# Altium schematic symbol library sch-libs.SCHLIB: 30 symbols
Pins are listed as number, name and electrical type; pins without a type are passive.

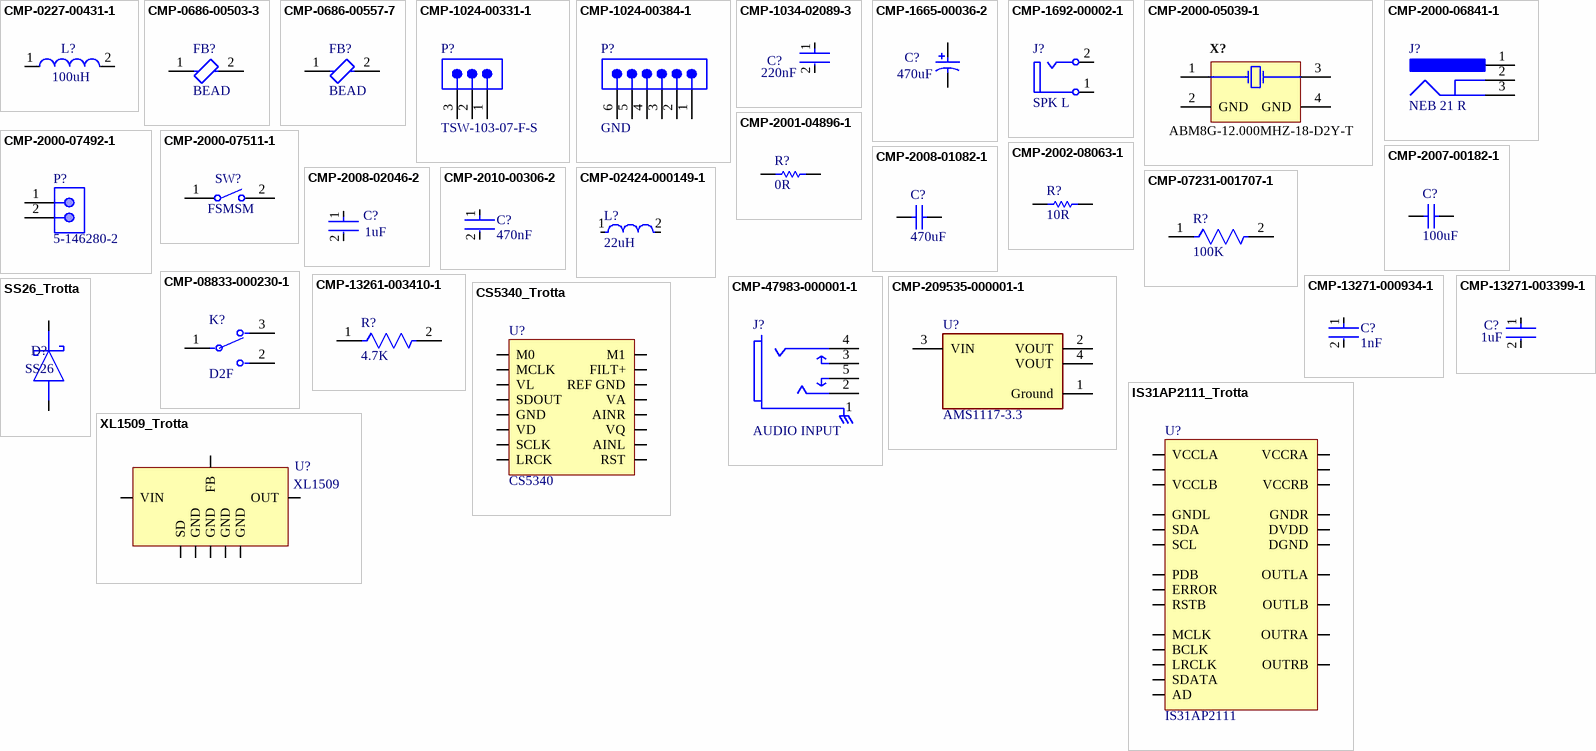
[diagram p0: symbols CMP-0227-00431-1 to XL1509_Trotta]

## CMP-0227-00431-1
designator L?, comment 100uH
SMD Power Inductor WE-PD2, L = 100 µH; Manufacturer: Wurth Electronics; Manufacturer Part Number: 74477520; Inductance: 100 ÂµH; PackageVersion: 2004; ComponentLink1Description: Manufacturer Link; PackageDescription: SMD Inductor, 2-Leads, Body 7.8 x 7.0 mm; ComponentLink2URL: http://www.we-online.de/katalog/media/pdf/74477520.pdf; ComponentLink2Description: Datasheet; DatasheetVersion: ver 1, Oct-2004; PackageReference: WE-PD2-L; ComponentLink1URL: http://www.we-online.com
footprint WE-PD2-L (SMD Inductor, 2-Leads, Body 7.8x7.0x5.5 mm)
pins: 1, 2

## CMP-0686-00503-3
designator FB?, comment BEAD
Chip Ferrite Bead, 0603, 75Ω @ 100MHz, 0.3Ω, 25%, 600mA; Manufacturer: Murata; Manufacturer Part Number: BLM18BB750SN1D; Resistance: 350mR; Max DC Current: 500mA; Shielding: Unshielded; Number of Lines: 1; Impedance: 75R; Conductor Material: Copper; Material: Steel; DC Resistance (DCR): 300mR; Temperature Coefficient: 10ppm/°C; Max Current Rating: 500mA; Case/Package: 0603; Case Code (Imperial): 0603; DC Current: 500mA; Test Frequency: 100MHz; Military Standard: Not; Series: BLM18B; Min Operating Temperature: -55°C; Number of Pins: 2; Termination: SMD/SMT; Length: 1.6mm; Packaging: Tape and Reel; Max Operating Temperature: 125°C; Package Quantity: 1; REACH SVHC: No SVHC; Height: 0.8mm; Radiation Hardening: No; Depth: 0.8mm; Tolerance: 25%; Current Rating: 500mA; Width: 0.8mm; Core Material: Ferrite; RoHS Compliant: Yes; DC Resistance-Max: 300mR; Lead Free: Lead Free; Case Code (Metric): 1608; Number of Circuits: 1
footprint FP-BLM18-0_15-t0_8-IPC_B
footprint FP-BLM18-0_15-t0_8-IPC_A
footprint FP-BLM18-0_15-t0_8-MFG
footprint FP-BLM18-0_15-t0_8-IPC_C
pins: 1, 2

## CMP-0686-00557-7
designator FB?, comment BEAD
Chip Ferrite Bead, 0603, 120Ω @ 100MHz, 0.05Ω, 25%, 2A; Manufacturer: Murata; Manufacturer Part Number: BLM18PG121SN1D; Impedance: 120R; Number of Circuits: 1; Shielding: Unshielded; Material: Steel; DC Resistance (DCR): 50mR; Case Code (Imperial): 0603; RoHS Compliant: Yes; Number of Pins: 2; Min Operating Temperature: -55°C; Case Code (Metric): 1608; Frequency: 100MHz; Length: 1.6mm; Test Frequency: 100MHz; Max Operating Temperature: 125°C; Packaging: Tape and Reel; Max Current Rating: 2A; Termination: SMD/SMT; Lead Free: Lead Free; Max DC Current: 2A; Case/Package: 0603; Height: 0.8mm; Current Rating: 2A; Radiation Hardening: No; Core Material: Ferrite; DC Current: 2A; REACH SVHC: No SVHC; Package Quantity: 1; Depth: 0.8mm; Number of Lines: 1; Tolerance: 25%; Width: 0.8mm
footprint FP-BLM18-0_15-t0_8-IPC_A
footprint FP-BLM18-0_15-t0_8-IPC_C
footprint FP-BLM18-0_15-t0_8-IPC_B
footprint FP-BLM18-0_15-t0_8-MFG
pins: 1, 2

## CMP-1024-00331-1
designator P?, comment TSW-103-07-F-S
0.025" SQ Post Header, Through-hole, Vertical, -55 to 125 degC, 2.54 mm Pitch, 3-Pin, Male, RoHS; Manufacturer: Samtec; Pitch: 2.54 mm; DatasheetVersion: F-214; ComponentLink1Description: Manufacturer URL; ComponentLink3URL: http://www.samtec.com/documents/webfiles/cpdf/TSW-XXX-XX-XXX-X-XX-XXX-MKT.pdf; Mounting Technology: Through-hole; PackageDescription: .025[0.64] SQ. Post Terminal Strip Assembly; Temperature Range: -55 to 125 degC; ComponentLink3Description: Package Specification; Orientation: Vertical; PartNumber: TSW-103-07-F-S; RoHS: True; PackageVersion: DM, 8/1988; ComponentLink2Description: Datasheet; ComponentLink1URL: http://www.samtec.com; ComponentLink2URL: http://www.samtec.com/documents/webfiles/pdf/TSW_TH.PDF; PackageReference: TSW-103-07-X-S; Manufacturer Part Number: TSW-103-07-F-S
footprint SMTC-TSW-103-07-X-S (.025 SQ Post Terminal Strip Assembly, 1x3 Pins, Vertical, 2.54mm Pitch, Male)
pins: 1, 2, 3

## CMP-1024-00384-1
designator P?, comment GND
0.025" SQ Post Header, Through-hole, Vertical, -55 to 105 degC, 2.54 mm Pitch, 6-Pin, Male, RoHS; PartNumber: TSW-106-07-T-S; Manufacturer: Samtec; Pitch: 2.54 mm; ComponentLink3URL: http://www.samtec.com/documents/webfiles/cpdf/TSW-XXX-XX-XXX-X-XX-XXX-MKT.pdf; ComponentLink1Description: Manufacturer URL; Orientation: Vertical; ComponentLink2Description: Datasheet; ComponentLink1URL: http://www.samtec.com; RoHS: True; DatasheetVersion: F-214; PackageDescription: .025[0.64] SQ. Post Terminal Strip Assembly; Mounting Technology: Through-hole; PackageReference: TSW-106-07-X-S; PackageVersion: DM, 8/1988; ComponentLink3Description: Package Specification; ComponentLink2URL: http://www.samtec.com/documents/webfiles/pdf/TSW_TH.PDF; Temperature Range: -55 to 105 degC; Manufacturer Part Number: TSW-106-07-T-S
footprint SMTC-TSW-106-07-X-S (.025 SQ Post Terminal Strip Assembly, 1x6 Pins, Vertical, 2.54mm Pitch, Male)
pins: 1, 2, 3, 4, 5, 6

## CMP-1034-02089-3
designator C?, comment 220nF
Chip Multilayer Ceramic Capacitors for General Purpose, 0402, 0.22uF, X7R, 15%, 10%, 16V; Manufacturer: TDK; Manufacturer Part Number: C1005X6S1C224K; Manufacturer Part Number: C1005X7R1C224K; Manufacturer Part Number: C1005X5R1C224K; Manufacturer: Murata; Manufacturer Part Number: GRM155R71C224KA12D; Depth: 0.5mm; Dielectric: X7R; Capacitance: 220nF; Min Operating Temperature: -55°C; Package Quantity: 1; Termination: SMD/SMT; Mount: Surface Mount; Radiation Hardening: No; Height: 0.5mm; Case Code (Metric): 1005; Packaging: Tape and Reel; Material: Ceramic; Voltage: 16V; Voltage Rating (DC): 16V; REACH SVHC: No SVHC; Voltage Rating: 16V; Length: 1mm; Tolerance: 10%; Thickness: 0.022inch; Case Code (Imperial): 0402; Max Operating Temperature: 125°C; Width: 0.02inch; Lead Free: Lead Free; Case/Package: 0402
footprint FP-GRM155-0_05-IPC_C
footprint FP-GRM155-0_05-MFG
footprint FP-GRM155-0_05-IPC_B
footprint FP-GRM155-0_05-IPC_A
pins: 1, 2

## CMP-1665-00036-2
designator C?, comment 470uF
Aluminum Electrolytic Capacitor, 22 uF, +/- 20%, 50 V, -40 to 85 degC, 2-Pin THD, RoHS, Bulk; Manufacturer: Panasonic; Manufacturer Part Number: ECA-1HM220; Ripple Current: 100mA; Life (Hours): 2000Hour; Voltage: 50V; Dissipation Factor: 0.12%; Leakage Current: 3uA; Lead/Base Style: Straight; Capacitance: 22uF; Lead Diameter: 0.5mm; Max Operating Temperature: 85degC; Height: 11mm; Package Reference: CAPPR55-200-1100X500X1200; Radiation Hardening: No; RoHSCompliant: true; Termination: Radial; Case/Package: Radial; REACH SVHC: NoSVHC; Height - Seated (Max): 0.472inch; Min Operating Temperature: -40degC; Packaging: Bulk; Manufacturer URL: http://www.panasonic.com/; Length: 11mm; Tolerance: 20%; Voltage Rating: 50V; Voltage Rating (DC): 50V; Datasheet URL: https://industrial.panasonic.com/cdbs/www-data/pdf/RDF0000/ABA0000C1218.pdf; Lead Pitch: 2mm; Ripple Current (AC): 100mA; Package Description: 2-Pin Radial Lead, Dia 5 mm, Height 12 mm; Diameter: 5mm; Datasheet Version: Rev. 05, 10/2016; Package Quantity: 200; Mount: ThroughHole
footprint CAPPR55-200-1100X500X1200 (THD, 2-Leads, Dia 5mm, Body Length 11mm)
pins: 1, 2

## CMP-1692-00002-1
designator J?, comment SPK L
Female RCJ Jack, 2 Position, Height 11.724 mm, Tail Length 4 mm, RoHS, Bulk; Manufacturer: CUI; Manufacturer Part Number: RCJ-041; Case\Package: Metal; Connector Type: HDMI; Current Rating: 500 mA; Voltage Rating: 40 V; Length: 16.2 mm; Pins: 19; ComponentLink1URL: http://www.cui.com/; ComponentLink1Description: Manufacturer URL; Packaging: Tape and Reel; Lead Pitch: 0.5 mm; PackageDescription: Female RCJ Jack, 2 Position, Height 11.724 mm, Tail Length 4 mm; RoHSCompliant: true; Min Operating Temperature: -55 degC; Height: 6.1 mm; Contact Material: Copper; REACH SVHC: No SVHC; DatasheetVersion: Rev. B, 02/2012; ComponentLink2Description: Datasheet; Contact Plating: Gold; Colour: Black; Max Operating Temperature: 85 degC; Mount: Surface Mount; Package Quantity: 400; Gender: Female; ComponentLink2URL: http://www.cui.com/product/resource/rcj-04x.pdf; PackageReference: RCJ-041
footprint CUI-RCJ-041_V (Jack, 2-Leads, Body 19.5x10mm)
pins: 1, 2

## CMP-2000-05039-1
designator X?, comment ABM8G-12.000MHZ-18-D2Y-T
Ultra Miniature Ceramic Glass Sealed SMD Cryastal, 12 MHz, 18 pF, +/- 20 ppm, -40 to 85 degC, 4-Pin SMD, RoHS, Tape and Reel; Brand: ABRACON; ESR: 120Ohms; Case Length: 3.2mm; Tolerance: 20PPM; Frequency: 12MHz; Frequency Stability: 30PPM; Case Height: 1mm; Case Width: 2.5mm; Load Capacitance: 18pF; Termination Style: SMD/SMT; Mounting Style: SMD/SMT; Factory Pack Quantity: 1000; Series: ABM8G; Datasheet Version: Apr-17; Manufacturer: ABRACON; Packaging: Reel; Manufacturer URL: http://www.abracon.com/; RoHS: Details; Package / Case: 3.2mmx2.5mm; Type: UltraMiniatureGlassSealedCrystal; Datasheet URL: https://datasheet.ciiva.com/15116/getdatasheetpartid-719790-15116701.pdf; Operating Temperature Range: -40Cto+85C; Product Category: Crystals; Dimensions: 2.5mmWx3.2mmLx1mmH; Manufacturer: Abracon; Manufacturer Part Number: ABM8G-12.000MHZ-18-D2Y-T
footprint ABRACON_ABM8G_V (SMD, 4-Leads, Body 2.6x3.3mm)
pins: 1 X1, 2 GND (power), 3 X2, 4 GND (power)

## CMP-2000-06841-1
designator J?, comment NEB 21 R
Jack Socket, Body 14.5 x 9 mm, Height 11 mm, -20 to 70 degC, 3-Pin THD, RoHS, Bulk; Manufacturer: Lumberg; Manufacturer Part Number: NEB21R; Body Orientation: RightAngle; Voltage Rating: 12Vdc; Current Rating: 3A; Maximum Operating Temperature: +70°C; Mounting Technology: ThroughHole; Termination Method: Solder; Package Description: 3-Pin Through Hole Device, Body 14.5 x 9 mm, Height 11 mm; Datasheet URL: https://datasheet.ciiva.com/11720/0900766b805694d6-11720273.pdf; Datasheet Version: 12/2004; Package Reference: NEB21R; Manufacturer URL: http://www.lumberg.com/; Plug/Socket: Socket; Mounting Type: ThroughHole; Minimum Operating Temperature: -20°C
footprint LUMB-NEB21R_V (THD, 3-Leads, Body 14.5x9mm)
pins: 1, 2, 3

## CMP-2000-07492-1
designator P?, comment 5-146280-2
Male Header, Pitch 2.54 mm, 1 x 2 Position, Height 8.21 mm, Tail Length 3.05 mm, -65 to 105 degC, RoHS, Bulk; Manufacturer: TE Connectivity; Mating Connector Lock: No(Without); Number of Positions: 2; Pitch: 2.54mm; PCB Mounting Orientation: Vertical; Keyed: No; Case\/Package: 100; Mating Post Length: 0.23inch; High Temperature Housing: Yes; Max Current Rating: 5A; PCB Thickness: 0.063inch; PCB Mount Retention: Without; Approvals: CSA; Current Rating: 3A; Radiation Hardening: No; Length: 4.67mm; Contact Mating Length: 0.23inch; Connector Type: Header; Number of Rows: 1; Termination Post Length: 0.12inch; Board Standoff: No(Without); Max Operating Temperature: 105degC; Contact Shape: Square; Selectively Loaded: No(Without); Gasket: No(Without); Number of Contacts: 2; Contact Gender: Male; Mating Alignment: No(Without); Manufacturer URL: http://www.te.com/; Datasheet URL: http://www.te.com/commerce/DocumentDelivery/DDEController?Action=showdoc&DocId=Customer+Drawing%7F146280%7FH1%7Fpdf%7FEnglish%7FENG_CD_146280_H1.pdf%7F5-146280-2; Mount: ThroughHole; Orientation: Straight; Packaging: Carton; Package Reference: 5-146280-2; Package Quantity: 500; Stabilizers: No(Without); Row Spacing: 2.54mm; Contact Material: CopperAlloy; Panel Mount Retention: No(Without); Datasheet Version: Rev. H1, 08/2016; Housing Colour: Black; Colour: Black; Package Description: Male Header, Pitch 2.54 mm, 1 x 2 Position, Height 8.21 mm, Tail Length 3.05 mm; Contact Plating: Matte; Housing Material: Polymer; Contact Protection: No(Without); Min Operating Temperature: -65degC; Mounting Technology: ThroughHole; Flammability Rating: UL94V-0; RoHSCompliant: true; Termination: ThroughHole; Depth: 2.34mm; High Speed Serial Data Connector: No; Manufacturer Part Number: 5-146280-2
footprint TECO-5-146280-2_V (Connector, 2-Leads, Body 4.67x2.34mm, Pitch 2.54mm)
pins: 1, 2

## CMP-2000-07511-1
designator SW?, comment FSMSM
FSMSM Push Button Switch, 50 mA, -35 to 85 degC, 2-Pin SMD, RoHS, Bulk; Manufacturer: TE Connectivity; Manufacturer: TE Connectivity Alcoswitch; Actuator Length: 1.07mm; Electrical Life: 20000Cycles; Actuator Material: Polyamide; Current Rating: 50mA; Illumination Type: Illuminated; Voltage Rating (DC): 24V; Contact Resistance: 100mOhm; Case\/Package: SMD/SMT; Operating Force: 180gf; Switch Travel: 0.25mm; Max Voltage Rating (DC): 12V; Throw Configuration: SPST; Packaging: LoosePiece; Max Operating Temperature: 85degC; ELV: Compliant; Package Description: 2-Pin Surface Mount Device, Body 6 x 3.5 mm, Pitch 9.19 mm; RoHSCompliant: true; Manufacturer URL: http://www.te.com/; Contact Plating: Silver; Contact Material: Brass; Mounting Technology: SurfaceMount; Contact Current Rating: 50mA; Datasheet Version: Rev. C2, 08/2014; Datasheet URL: http://www.te.com/commerce/DocumentDelivery/DDEController?Action=showdoc&DocId=Customer+Drawing%7F1437566-3%7FC2%7Fpdf%7FEnglish%7FENG_CD_1437566-3_C2_1437566_3_1_c.dwg.pdf%7F1437566-3; Mechanical Life: 20000Cycles; Package Reference: FSMSM; REACH SVHC: Unknown; Orientation: Straight; Min Operating Temperature: -35degC; Lead Free: LeadFree; Termination: GullWing; Package Quantity: 1000; Mount: SurfaceMount; Manufacturer Part Number: FSMSM
footprint TECO-FSMSM-2_V (SMD, 2-Leads, Body 6x3.5mm, Pitch 9.19mm)
pins: 1, 2

## CMP-2001-04896-1
designator R?, comment 0R
Manufacturer: Vishay Dale; Part Number: CRCW08050000Z0EA; Manufacturer: Vishay; Manufacturer Part Number: CRCW08050000Z0EA
footprint RESC2013X50X30LL20T20 (Chip Resistor, 2-Leads, Body 2.00x1.25mm, IPC High Density)
footprint RESC2013X50X30ML20T20 (Chip Resistor, 2-Leads, Body 2.00x1.25mm, IPC Low Density)
footprint RESC2013X50X30NL20T20 (Chip Resistor, 2-Leads, Body 2.00x1.25mm, IPC Medium Density)
pins: 1, 2
1 alternate drawing of the same symbol

## CMP-2002-08063-1
designator R?, comment 10R
Part Number: RC0402JR-1310RL; Manufacturer: Yageo; Manufacturer Part Number: RC0402JR-1310RL
footprint RESC1005X40X25ML05T10 (Chip Resistor, 2-Leads, Body 1.00x0.50mm, IPC Low Density)
footprint RESC1005X40X25NL05T10 (Chip Resistor, 2-Leads, Body 1.00x0.50mm, IPC Medium Density)
footprint RESC1005X40X25LL05T10 (Chip Resistor, 2-Leads, Body 1.00x0.50mm, IPC High Density)
pins: 1, 2
1 alternate drawing of the same symbol

## CMP-2007-00182-1
designator C?, comment 100uF
Manufacturer: Murata; Part Number: GRM219R61E106KA12D; Manufacturer: Samsung; Manufacturer Part Number: CL21A106KAYNNNE
footprint CAPC2013X95X45ML10T25 (Chip Capacitor, 2-Leads, Body 2.00x1.25mm, IPC Low Density)
footprint CAPC2013X95X45LL10T25 (Chip Capacitor, 2-Leads, Body 2.00x1.25mm, IPC High Density)
footprint CAPC2013X95X45NL10T25 (Chip Capacitor, 2-Leads, Body 2.00x1.25mm, IPC Medium Density)
pins: 1, 2
1 alternate drawing of the same symbol

## CMP-2008-01082-1
designator C?, comment 470uF
Manufacturer: Vitramon; Part Number: VJ0402Y471KXBAC; Manufacturer: Vishay Vitramon; Manufacturer Part Number: VJ0402Y471KXBAC
footprint CAPC1005X60X26NL10T16 (Chip Capacitor, 2-Leads, Body 1.00x0.50mm, IPC Medium Density)
footprint CAPC1005X60X26ML10T16 (Chip Capacitor, 2-Leads, Body 1.00x0.50mm, IPC Low Density)
footprint CAPC1005X60X26LL10T16 (Chip Capacitor, 2-Leads, Body 1.00x0.50mm, IPC High Density)
pins: 1, 2
1 alternate drawing of the same symbol

## CMP-2008-02046-2
designator C?, comment 1uF
CAP CER 0.1UF 10V X5R 0402; Manufacturer: Kemet; Manufacturer Part Number: C0402C104K8PACTU; Material: Ceramic; Capacitance: 0.10 μF; Temperature Coefficient: 15%; Tolerance: 0.1; Value: 0.10 μF; Package: C0402-BB; Temperature: -55°C to +125°C; ComponentLink2Description: Datasheet; Temperature Characteristic: X5R; Device Class L1: Passive Components; Height: 0.55mm; Lead Free: Yes; ComponentLink2URL: https://content.kemet.com/datasheets/KEM_C1002_X7R_SMD.pdf; Device Class L2: Capacitors; Temperature Range Low: -55°C; Temperature Range High: +125°C; RoHS: TRUE; Octopart: https://octopart.com/c0402c104k8pactu-kemet-140039; Automotive: No; Mouser Description: Capacitor 100 nF 10 VDC 0402; Category: Cap; Voltage Rating: 10 V; Digikey Description: CAP CER 0.1UF 10V X5R 0402; Ipc Land Pattern Name: CAPC10050X50; Device Class L3: Ceramic Capacitors; Manufacturer: KEMET
footprint FP-C0402-BB-MFG
footprint FP-C0402-BB-IPC_C
footprint FP-C0402-BB-IPC_B
footprint FP-C0402-BB-IPC_A
pins: 1, 2

## CMP-2010-00306-2
designator C?, comment 470nF
Cap Ceramic 470nF 4V X5R ±20% Pad SMD 0201 +85°C T/R; Manufacturer: Samsung; Manufacturer Part Number: CL03A474MR3NNNC; Case Code (Metric): 0603; Tolerance: 20%; Case Code (Imperial): 0201; Width: 0.012inch; Capacitance: 470nF; Thickness: 0.013inch; Dielectric: X5R; Length: 0.6mm; Radiation Hardening: No; Depth: 0.3mm; Height: 0.3mm; Mount: Surface Mount; Max Operating Temperature: 85°C; Case/Package: 0201; Voltage Rating: 4V; Min Operating Temperature: -55°C; Packaging: Tape and Reel; Voltage Rating (DC): 4V; Lead Free: Lead Free
footprint FP-CL03-IPC_A
footprint FP-CL03-IPC_B
footprint FP-CL03-IPC_C
pins: 1, 2

## CMP-02424-000149-1
designator L?, comment 22uH
Commercial Inductors, High Saturation Series 22uH 11A 26.5mΩ 20%; Manufacturer: Vishay Dale; Manufacturer Part Number: IHLP6767GZER220M01; Core Material: Metal; Shielding: Shielded; Saturation Current: 23A; Self Resonant Frequency: 2MHz; Test Frequency: 100kHz; DC Resistance (DCR): 26.5mR; RMS Current (Irms): 11A; Depth: 17.15mm; Min Operating Temperature: -55°C; Tolerance: 20%; Length: 17.15mm; Lead Free: Lead Free; Max DC Current: 23A; Package Quantity: 200; Height - Seated (Max): 0.157inch; Mount: Surface Mount; Packaging: Tape and Reel; Inductance: 22uH; Case/Package: 6767; Military Standard: Not; Max Operating Temperature: 125°C; Termination: SMD/SMT; Current Rating: 11A; Radiation Hardening: No; Width: 0.675inch; Inductance Tolerance: 20%; Height: 7mm
footprint FP-IHLP-6767GZ-FP_3_825x1-MFG
pins: 1, 2

## CMP-07231-001707-1
designator R?, comment 100K
Thick Film Chip Resistors 0805 100kΩ 0.125W 5% 200ppm/°C; Manufacturer: Bourns; Manufacturer Part Number: CR0805-JW-104GLF; Power Rating: 125mW; Voltage Rating: 150V; Resistance: 100kR; Case Code (Metric): 2012; Case Code (Imperial): 0805; Temperature Coefficient: 200ppm/°C; Mount: Surface Mount; Tolerance: 5%; Radiation Hardening: No; Military Standard: Not; Contact Plating: Tin; Number of Terminations: 2; Packaging: Tape and Reel; Thickness: 508um; Length: 0.079inch; Depth: 1.25mm; Min Operating Temperature: -55°C; Features: Moisture Resistant; Max Operating Temperature: 155°C; Width: 0.049inch; Package Quantity: 10000; Termination: SMD/SMT; Composition: Thick Film; Max Power Dissipation: 125mW; Height: 0.024inch; Case/Package: 0805
footprint FP-CR0805-MFG
footprint FP-CR0805-IPC_A
footprint FP-CR0805-IPC_B
footprint FP-CR0805-IPC_C
pins: 1, 2

## CMP-08833-000230-1
designator K?, comment D2F
SWITCH SNAP ACTION SPDT 3A 125V; Manufacturer: Omron; Mechanical Life: 1000000Cycles; Operating Position: 0.217inch; Pretravel: 0.02inch; Voltage Rating (DC): 30V; Ratings: IP40; Switch Function: On-Mom; Operating Force: 1.47N; Current Rating: 2A; Insulation Resistance: 100MR; Electrical Life: 30000Cycles; Differential Travel: 0.005inch; Actuator Type: PIN PLUNGER; Overtravel: 0.01inch; Approvals: UL; Lead Free: Lead Free; Package Quantity: 1000; RoHS Compliant: Yes; Radiation Hardening: No; Throw Configuration: SPDT; Contact Material: Silver; Depth: 5.8mm; Voltage Rating (AC): 125V; Weight: 0.5g; Min Operating Temperature: -25°C; Max Voltage Rating (AC): 125V; Length: 12.8mm; Contact Current Rating: 3A; Orientation: Straight; Max Voltage Rating (DC): 30V; Mount: Through Hole; Max Operating Temperature: 65°C; Max Current Rating: 3A; Termination: PC Pins; Series: D2F; Packaging: Bulk; Manufacturer Part Number: D2F
footprint FP-D2F-MFG
pins: 1 COM, 2 NO, 3 NC

## CMP-13261-003410-1
designator R?, comment 4.7K
Res Thick Film 0805 11.5kΩ 1% 0.125W ±100ppm/°C Molded SMD T/R; Manufacturer: Samsung; Manufacturer Part Number: RC2012F1152CS; Power Rating: 125mW; Voltage Rating (DC): 150V; Resistance: 11.5kR; Case Code (Metric): 2012; Composition: Thick Film; Width: 0.049inch; Case Code (Imperial): 0805; Package Quantity: 1; Case/Package: 0805; Features: Moisture Resistant; Number of Terminations: 2; Height: 0.024inch; Max Operating Temperature: 155°C; Max Power Dissipation: 125mW; Min Operating Temperature: -55°C; Temperature Coefficient: 100ppm/°C; Tolerance: 1%; Length: 0.079inch; Lead Free: Lead Free; Packaging: Tape and Reel
footprint FP-RC2012-IPC_A
footprint FP-RC2012-MFG
footprint FP-RC2012-IPC_C
footprint FP-RC2012-IPC_B
pins: 1, 2

## CMP-13271-000934-1
designator C?, comment 1nF
Cap Ceramic 1nF 2kV X7R ±20% SMD 1206 +125°C Embossed T/R; Manufacturer: Samsung; Manufacturer Part Number: CL31B102MJHNNNE; Width: 0.063inch; Voltage Rating (DC): 2kV; Voltage Rating: 2kV; Package Quantity: 1; Max Operating Temperature: 125°C; Mount: Surface Mount; Packaging: Tape and Reel; Length: 0.126inch; Capacitance: 1nF; Case Code (Imperial): 1206; Min Operating Temperature: -55°C; Case/Package: 1206; Case Code (Metric): 3216; Tolerance: 20%; Thickness: 0.071inch
footprint FP-CL31-IPC_C
footprint FP-CL31-IPC_B
footprint FP-CL31-IPC_A
pins: 1, 2

## CMP-13271-003399-1
designator C?, comment 1uF
Cap Ceramic 1uF 10V X5R ±10% Pad SMD 0603 +85°C T/R; Manufacturer: Samsung; Manufacturer Part Number: CL10A105KP8NNNC; Min Operating Temperature: -55°C; Max Operating Temperature: 85°C; Dielectric: X5R; Contact Plating: Tin; Height: 0.8mm; Voltage: 10V; Packaging: Tape and Reel; Voltage Rating: 10V; Capacitance: 1uF; Package Quantity: 1; Width: 0.031inch; Length: 1.6mm; Depth: 0.8mm; Case/Package: 0603; Case Code (Imperial): 0603; Thickness: 0.035inch; Radiation Hardening: No; Tolerance: 10%; Case Code (Metric): 1608; Mount: Surface Mount
footprint FP-CL10-IPC_C
footprint FP-CL10-IPC_A
footprint FP-CL10-IPC_B
pins: 1, 2

## CMP-47983-000001-1
designator J?, comment AUDIO INPUT
CONN JACK STEREO 3.5MM R/A; Manufacturer: Switchcraft; Obsolete Part: true; Manufacturer Part Number: 35RAPC4BV4; Conn Orientation: Right Angle; Number Of Contacts: 5; Contact Material: Silver; Device Class L1: Connectors; Height: 0.495inch; ComponentLink2URL: http://www.switchcraft.com/Drawings/35rapc__v4_cd.pdf; Category: Conn; Digikey Description: CONN JACK STEREO 3.5MM R/A; Automotive: No; ComponentLink2Description: Datasheet; Package: 35RAPC4BV4; Device Class L2: Audio / Video Connectors; Mouser Description: Phone Connectors 3.5MM VERT STEREO JK; RoHS: TRUE; Octopart: https://octopart.com/35rapc4bv4-switchcraft-223606; Lead Free: Yes; Device Class L3: unset
footprint FP-35RAPC4BV4-MFG
pins: 1, 2, 3, 4, 5

## CMP-209535-000001-1
designator U?, comment AMS1117-3.3
LDO Voltage Regulators 1A, 3.3V; Manufacturer: Advanced Monolithic Systems; Dropout Voltage: 1.1V; Output Type: Fixed; Nominal Supply Current: 5mA; Max Power Dissipation: 1.2W; Max Supply Voltage: 15V; Number Of Outputs: 1; Standoff Height: 0.64mm; Max Junction Temp: +125°C; Height: 1.8mm; Package: AMS1117; Device Class L2: Power Management ICs; ComponentLink2Description: Datasheet; ComponentLink2URL: http://www.advanced-monolithic.com/pdf/ds1117.pdf; Category: IC; RoHS: TRUE; Automotive: No; Device Class L1: Integrated Circuits (ICs); Output Current: 1A; Device Class L3: Voltage Regulators - Linear; Temperature: -40°C to +125°C; Output Voltage: 3.3V; Manufacturer Part Number: AMS1117-3.3; Temperature Range Low: -40°C; Octopart: https://octopart.com/ams1117-3.3-advanced+monolithic+systems-25899300; Lead Free: Yes; Ipc Land Pattern Name: SOT229P700X180-4; Temperature Range High: +125°C
footprint FP-AMS1117-IPC_C
footprint FP-AMS1117-IPC_B
footprint FP-AMS1117-IPC_A
pins: 1 Ground (power), 2 VOUT, 3 VIN (power), 4 VOUT

## CS5340_Trotta
designator U?, comment CS5340
101dB, 192kHz, Multi-Bit Audio A/D Converter
footprint TSSOP-16L_Trotta
pins: 1 M0, 2 MCLK, 3 VL, 4 SDOUT, 5 GND, 6 VD, 7 SCLK, 8 LRCK, 9 RST, 10 AINL, 11 VQ, 12 AINR, 13 VA, 14 REF GND, 15 FILT+, 16 M1

## IS31AP2111_Trotta
designator U?, comment IS31AP2111
2x20W STEREO/1x40W MONO DIGITAL (I2S) AUDIO AMPLIFIER WITH 20 BANDS EQ FUNCTIONS
footprint ETSSOP-24_Trotta
pins: 1 PDB, 2 ERROR, 3 SDATA, 4 LRCLK, 5 SDA, 6 SCL, 7 RSTB, 8 DGND, 9 DVDD, 10 AD, 11 MCLK, 12 BCLK, 13 VCCRA, 14, 15 OUTRA, 16 GNDR, 17 OUTRB, 18 VCCRB, 19 VCCLB, 20 OUTLB, 21 GNDL, 22 OUTLA, 23, 24 VCCLA

## SS26_Trotta
designator D?, comment SS26
SCHOTTKY BARRIER / RECTIFIER / 2.0 AMPERES / 60 VOLTS
footprint SMB_Trotta
pins: A, C K

## XL1509_Trotta
designator U?, comment XL1509
2A 150KHz 40V Buck DC to DC Converter
footprint SOIC8_Trotta (SOIC, 8-Leads, Body 4,90x3,90mm, Pitch 1,27mm, IPC Medium Density)
pins: 1 VIN, 2 OUT, 3 FB, 4 SD, 5 GND, 6 GND, 7 GND, 8 GND